# Altium schematic symbol library CENTELHADOR (SPARK).SchLib: 1 symbol
Pins are listed as number, name and electrical type; pins without a type are passive.

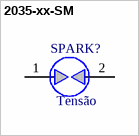
[diagram p0: symbol 2035-xx-SM]

## 2035-xx-SM
designator SPARK?, comment Tensão
2035-xx-SM Precision Gas Discharge Tube Surge Protector; Fabricante: Bournes; ComponentLink1Description: datasheet; ComponentLink1URL: https://www.bourns.com/docs/Product-Datasheets/2035-xx-SM.pdf; ComponentLink2Description: loja; ComponentLink2URL: https://www.digikey.com/product-detail/en/bourns-inc/2035-60-SM-RPLF/2035-60-SM-RPLFCT-ND/1220357; Footprint: 2035-SMD; Value: Tensão; MPN: 2035-xx-SM
footprint 2035-SM_SPARK (2035-xx-SM , SMD 4.4mm X 5mm)
pins: 1, 2